# Altium schematic symbol library TPS7A9201DSKR.SchLib: 1 symbol
Pins are listed as number, name and electrical type; pins without a type are passive.

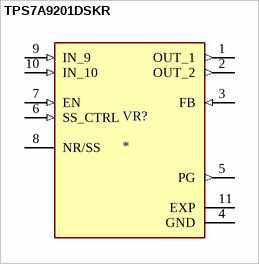
[diagram p0: symbol TPS7A9201DSKR]

## TPS7A9201DSKR
designator VR?
2-A, low-noise, high-PSRR, adjustable ultra-low-dropout voltage regulator with high-accuracy; MP: TPS7A9201DSKR; Price: None; Availability: Unavailable; Package: None; Value: *
footprint SON50P250X250X80-11N
pins: 1 OUT_1 (out), 2 OUT_2 (out), 3 FB (in), 4 GND (power), 5 PG (out), 6 SS_CTRL (in), 7 EN (in), 8 NR/SS, 9 IN_9 (in), 10 IN_10 (in), 11 EXP